# Altium footprint library electronic_dc_load_v1.PcbLib: 32 footprints (part 2 of 2)
Each footprint in its own frame and in the unit in brackets; x right, y up, seen from the top. Pads: shape width x height; smd on the part's side, far side on the other; paste and mask are expansions set on the pad; w line width, h text height; cw(c..) or ccw(c..) is an arc to the next point about the centre after c.
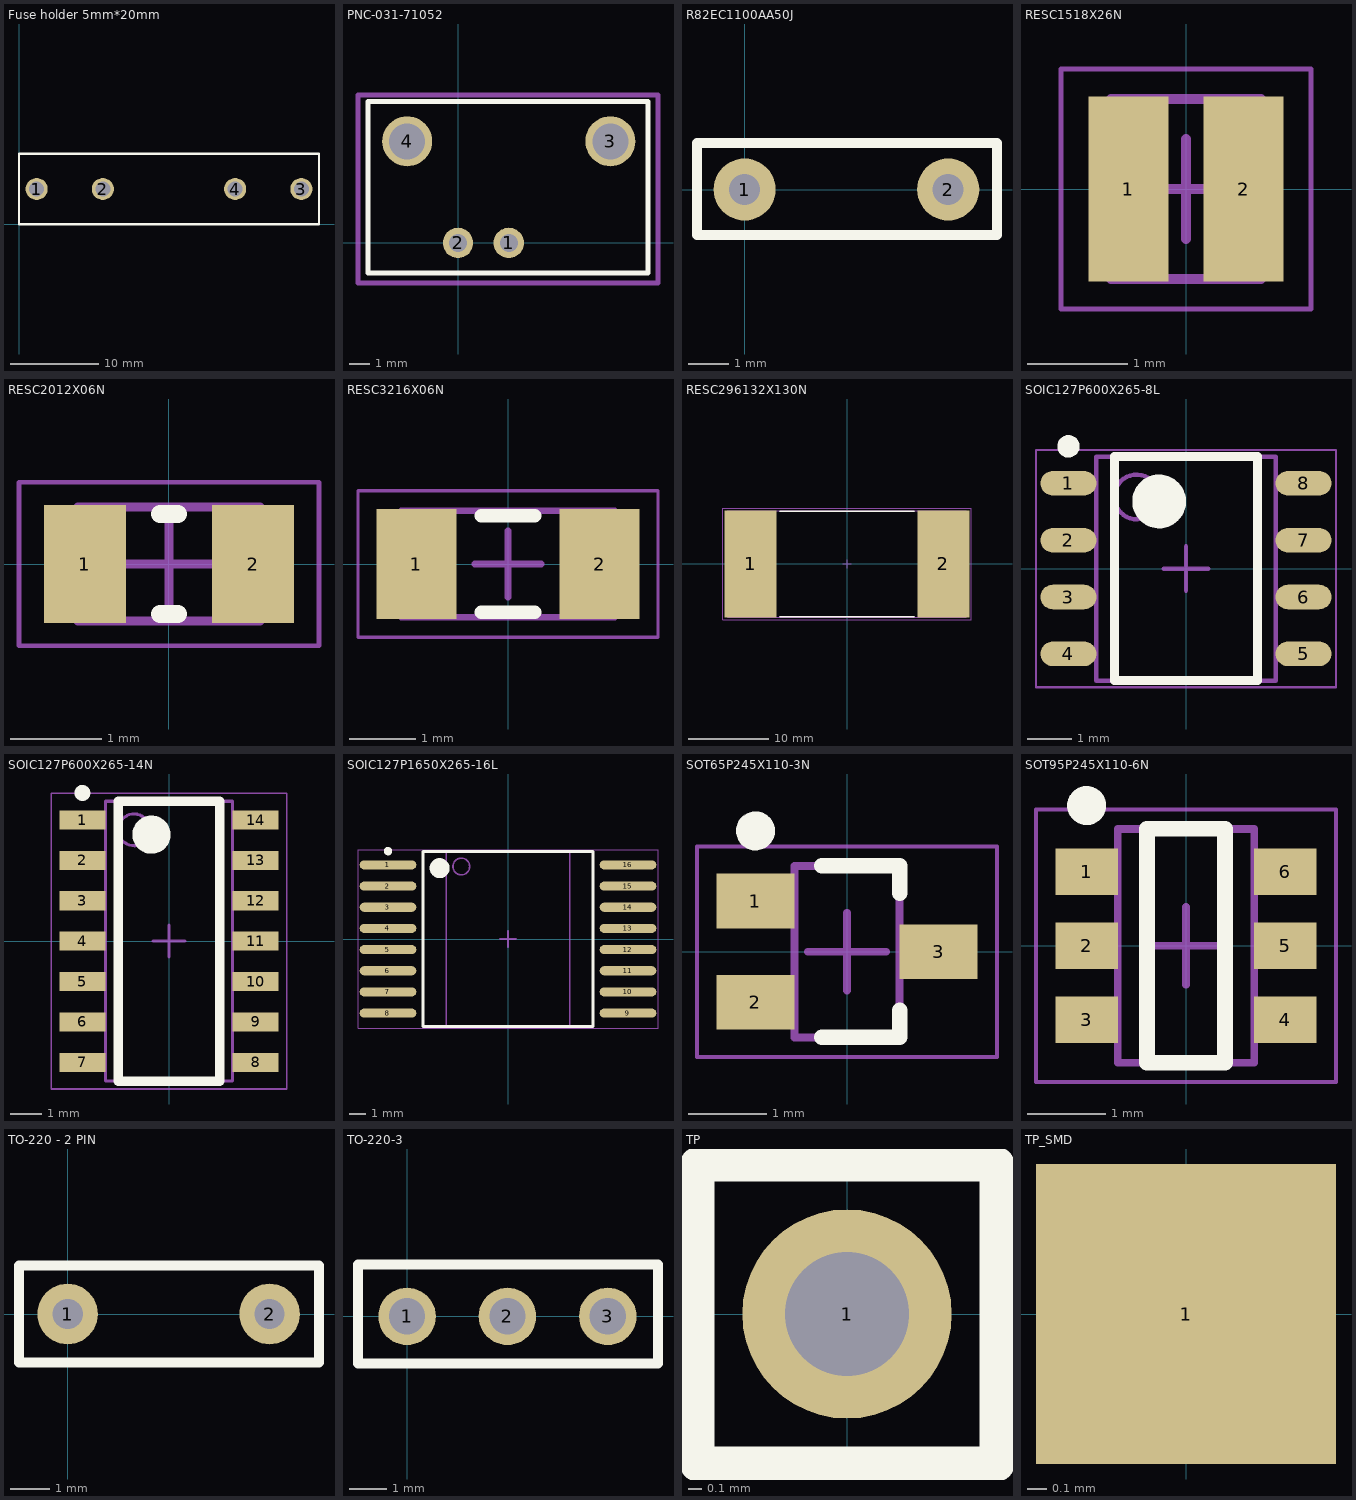
[diagram p1: the footprints below, top view; thin cyan lines are the x and y axes]

## Fuse holder 5mm*20mm [mm]
pads (4):
  round 2.5 hole 1.7: 1(2,4) 2(9.5,4) 3(32,4) 4(24.5,4)
Top Overlay:
  lines w0.254: 0,0 34,0 34,8 0,8 0,0
3D body "User Library-FH-103 fuse holder 6_4mm.STEP": height 10.7, standoff -2.99, extent 24.249,0.494 32.251,7.506
3D body "User Library-FH-103 fuse holder 6_4mm.STEP": height 10.7, standoff -2.99, extent 1.499,0.494 9.501,7.506
3D body "User Library-Fuse-2.STEP": height 12.09, standoff 5.74, extent 0.87,0.975 32.63,7.325

## PNC-031-71052 [mm]
pads (4):
  round 1.524 hole 0.9: 1(2.54,0) 2(0,0)
  round 2.5 hole 1.8: 3(7.62,5.08) 4(-2.54,5.08)
Top Overlay:
  lines w0.254: -4.5,-1.5 9.5,-1.5 9.5,7.061 -4.5,7.061 -4.5,-1.5
Mechanical 15:
  lines w0.254: -5,-2 10,-2 10,7.391 -5,7.391 -5,-2
3D body "11964.stp": height 17.62, standoff -2.37, extent -4.879,-1.9 9.879,33.66

## R82EC1100AA50J [mil]
pads (2):
  round 60 hole 30: 1(0,0) 2(196.85,0)
Top Overlay:
  lines w10: -46,-44 244,-44 244,45 -46,45 -46,-44
3D body "User Library-CapFilmBox_508.STEP": height 326.77, standoff -78.74, extent -51.18,-66.93 244.1,62.99

## RESC1518X26N [mm] "Chip Resistor, 2-Leads, Body 1.50x1.80mm, IPC Medium Density"
height 2.59
pads (2):
  rect 0.8x1.85 smd: 1(-0.575,0) 2(0.575,0)
Mechanical 13:
  lines w0.1: -0.75,-0.9 0.75,-0.9 0.75,0.9 -0.75,0.9 -0.75,-0.9
Mechanical 15:
  lines w0.05: -1.25,-1.2 1.25,-1.2 1.25,1.2 -1.25,1.2 -1.25,-1.2
  lines w0.1: -0.5,0 0.5,0 ; 0,-0.5 0,0.5
3D body: height 2.59, standoff 0, extent 0.2,-0.9 0.75,0.9
3D body: height 2.59, standoff 0, extent -0.75,-0.9 -0.2,0.9
3D body: height 2.59, standoff 0, extent -0.2,-0.9 0.2,0.9

## RESC2012X06N [mm] "Chip Resistor, 2-Leads, Body 2.00x1.25mm, IPC Medium Density"
height 0.6
pads (2):
  rect 0.9x1.3 smd: 1(-0.925,0) 2(0.925,0)
Top Overlay:
  lines w0.2: -0.1,-0.55 0.1,-0.55 ; -0.1,0.55 0.1,0.55
Mechanical 13:
  lines w0.1: -1,-0.625 -1,0.625 1,0.625 1,-0.625 -1,-0.625
Mechanical 15:
  lines w0.05: -1.65,-0.9 -1.65,0.9 1.65,0.9 1.65,-0.9 -1.65,-0.9
  lines w0.1: -0.5,0 0.5,0 ; 0,-0.5 0,0.5
3D body: height 0.6, standoff 0, extent -0.5,-0.625 0.5,0.625
3D body: height 0.6, standoff 0, extent -1,-0.625 -0.5,0.625
3D body: height 0.6, standoff 0, extent 0.5,-0.625 1,0.625

## RESC3216X06N [mm] "Chip Resistor, 2-Leads, Body 3.20x1.60mm, IPC Medium Density"
height 0.55
pads (2):
  rect 1.2x1.65 smd: 1(-1.375,0) 2(1.375,0)
Top Overlay:
  lines w0.2: -0.4,-0.725 0.4,-0.725 ; -0.4,0.725 0.4,0.725
Mechanical 13:
  lines w0.1: -1.6,-0.8 1.6,-0.8 1.6,0.8 -1.6,0.8 -1.6,-0.8
Mechanical 15:
  lines w0.05: -2.25,-1.1 2.25,-1.1 2.25,1.1 -2.25,1.1 -2.25,-1.1
  lines w0.1: -0.5,0 0.5,0 ; 0,-0.5 0,0.5
3D body: height 0.55, standoff 0, extent 0.8,-0.8 1.6,0.8
3D body: height 0.55, standoff 0, extent -1.6,-0.8 -0.8,0.8
3D body: height 0.55, standoff 0, extent -0.8,-0.8 0.8,0.8

## RESC296132X130N [mm] "Chip Resistor, 2-Leads, Body 29.59x13.21mm, IPC Medium Density"
height 13
pads (2):
  rect 6.45x13.3 smd: 1(-11.975,0) 2(11.975,0)
Top Overlay:
  lines w0.2: -8.35,-6.55 8.35,-6.55 ; -8.35,6.55 8.35,6.55
Mechanical 13:
  lines w0.1: -14.795,-6.605 14.795,-6.605 14.795,6.605 -14.795,6.605 -14.795,-6.605
Mechanical 15:
  lines w0.05: -15.45,-6.9 15.45,-6.9 15.45,6.9 -15.45,6.9 -15.45,-6.9
  lines w0.1: -0.5,0 0.5,0 ; 0,-0.5 0,0.5
3D body: height 13, standoff 0, extent 8.795,-6.605 14.795,6.605
3D body: height 13, standoff 0, extent -14.795,-6.605 -8.795,6.605
3D body: height 13, standoff 0, extent -8.795,-6.605 8.795,6.605

## SOIC127P600X265-8L [mm] "SOIC, 8-Leads, Body 4.90x3.90mm, Pitch 1.27mm, IPC High Density"
height 2.65
pads (8):
  oval 1.25x0.55 smd: 1(-2.625,1.905) 2(-2.625,0.635) 3(-2.625,-0.635) 4(-2.625,-1.905) 5(2.625,-1.905) 6(2.625,-0.635) 7(2.625,0.635) 8(2.625,1.905)
Top Overlay:
  circle w0.25: c-2.625,2.73 r0.125
  circle w0.6: c-0.6,1.5 r0.3
  lines w0.2: -1.6,-2.5 -1.6,2.5 1.6,2.5 1.6,-2.5 -1.6,-2.5
Mechanical 13:
  circle w0.1: c-1.1,1.6 r0.5
  lines w0.1: -2,-2.5 -2,2.5 2,2.5 2,-2.5 -2,-2.5
Mechanical 15:
  lines w0.05: -3.35,-2.65 -3.35,2.65 3.35,2.65 3.35,-2.65 -3.35,-2.65
  lines w0.1: -0.5,0 0.5,0 ; 0,-0.5 0,0.5
3D body: height 2.65, standoff 0.38, extent -2,-2.5 2,2.5

## SOIC127P600X265-14N [mm] "SOIC, 14-Leads, Body 8.65x3.91mm, Pitch 1.27mm, IPC Medium Density"
height 2.65
pads (14):
  rect 1.45x0.6 smd: 1(-2.725,3.81) 2(-2.725,2.54) 3(-2.725,1.27) 4(-2.725,0) 5(-2.725,-1.27) 6(-2.725,-2.54) 7(-2.725,-3.81) 8(2.725,-3.81) 9(2.725,-2.54) 10(2.725,-1.27) 11(2.725,0) 12(2.725,1.27) 13(2.725,2.54) 14(2.725,3.81)
Top Overlay:
  circle w0.25: c-2.725,4.66 r0.125
  circle w0.6: c-0.55,3.35 r0.3
  lines w0.3: -1.6,-4.4 -1.6,4.4 1.6,4.4 1.6,-4.4 -1.6,-4.4
Mechanical 13:
  circle w0.1: c-1.1,3.5 r0.5
  lines w0.1: -2,-4.4 -2,4.4 2,4.4 2,-4.4 -2,-4.4
Mechanical 15:
  lines w0.05: -3.7,-4.65 -3.7,4.65 3.7,4.65 3.7,-4.65 -3.7,-4.65
  lines w0.1: -0.5,0 0.5,0 ; 0,-0.5 0,0.5
3D body: height 2.65, standoff 0.38, extent -2,-4.4 2,4.4

## SOIC127P1650X265-16L [mm] "SOIC, 16-Leads, Body 10.30x7.50mm, Pitch 1.27mm, IPC High Density"
height 2.65
pads (16):
  oval 3.4x0.55 smd: 1(-7.2,4.445) 2(-7.2,3.175) 3(-7.2,1.905) 4(-7.2,0.635) 5(-7.2,-0.635) 6(-7.2,-1.905) 7(-7.2,-3.175) 8(-7.2,-4.445) 9(7.2,-4.445) 10(7.2,-3.175) 11(7.2,-1.905) 12(7.2,-0.635) 13(7.2,0.635) 14(7.2,1.905) 15(7.2,3.175) 16(7.2,4.445)
Top Overlay:
  circle w0.6: c-4.1,4.25 r0.3
  circle w0.25: c-7.2,5.27 r0.125
  lines w0.2: -5.1,-5.25 5.1,-5.25 5.1,5.25 -5.1,5.25 -5.1,-5.25
Mechanical 13:
  circle w0.1: c-2.8,4.35 r0.5
  lines w0.1: -3.7,-5.25 3.7,-5.25 3.7,5.25 -3.7,5.25 -3.7,-5.25
Mechanical 15:
  lines w0.05: -9,-5.35 9,-5.35 9,5.35 -9,5.35 -9,-5.35
  lines w0.1: -0.5,0 0.5,0 ; 0,-0.5 0,0.5
3D body: height 2.65, standoff 0.38, extent -3.7,-5.25 3.7,5.25

## SOT65P245X110-3N [mm] "SOT23, 3-Leads, Body 2.00x2.45mm, Pitch 0.65mm, IPC Medium Density"
height 1.1
pads (3):
  rect 1x0.7 smd: 1(-1.175,0.65) 2(-1.175,-0.65) 3(1.175,0)
Top Overlay:
  circle w0.25: c-1.175,1.55 r0.125
  lines w0.2: -0.325,-1.1 0.675,-1.1 0.675,-0.75 ; -0.325,1.1 0.675,1.1 0.675,0.75
Mechanical 13:
  lines w0.1: -0.675,-1.1 0.675,-1.1 0.675,1.1 -0.675,1.1 -0.675,-1.1
Mechanical 15:
  lines w0.05: -1.925,-1.35 1.925,-1.35 1.925,1.35 -1.925,1.35 -1.925,-1.35
  lines w0.1: -0.5,0 0.5,0 ; 0,-0.5 0,0.5
3D body: height 1.1, standoff 0.05, extent -0.675,-1.1 0.675,1.1

## SOT95P245X110-6N [mm] "SOT23, 6-Leads, Body 2.90x2.45mm, Pitch 0.95mm, IPC Medium Density"
height 1.1
pads (6):
  rect 0.8x0.6 smd: 1(-1.275,0.95) 2(-1.275,0) 3(-1.275,-0.95) 4(1.275,-0.95) 5(1.275,0) 6(1.275,0.95)
Top Overlay:
  circle w0.25: c-1.275,1.8 r0.125
  lines w0.2: -0.5,-1.5 0.5,-1.5 0.5,1.5 -0.5,1.5 -0.5,-1.5
Mechanical 13:
  lines w0.1: -0.875,-1.5 -0.875,1.5 0.875,1.5 0.875,-1.5 -0.875,-1.5
Mechanical 15:
  lines w0.05: -1.925,-1.75 -1.925,1.75 1.925,1.75 1.925,-1.75 -1.925,-1.75
  lines w0.1: -0.5,0 0.5,0 ; 0,-0.5 0,0.5
3D body: height 1.1, standoff 0.05, extent -0.875,-1.5 0.875,1.5

## TO-220 - 2 PIN [mil]
pads (2):
  round 60 hole 30: 1(0,0) 2(200,0)
Top Overlay:
  lines w10: -48.23,-48.23 249.02,-48.23 249.02,48.23 -48.23,48.23 -48.23,-48.23
3D body "User Library-TO220-2_V-L.STEP": height 885.83, standoff -275.59, extent -98.43,-68.9 295.28,108.27

## TO-220-3 [mil]
pads (3):
  round 60 hole 37.8: 1(0,0) 2(104.72,0) 3(209.45,0)
Top Overlay:
  lines w10: -51.18,-49.21 261.81,-49.21 261.81,54.13 -51.18,54.13 -51.18,-49.21
3D body "ALSRobot-TO-220-3.STEP": height 858.27, standoff -274.8, extent -89.57,-82.68 300.2,94.49

## TP [mil]
pads (1):
  round 60 hole 35.43: 1(0,0)
Top Overlay:
  lines w10: -43,-43 43,-43 43,43 -43,43 -43,-43

## TP_SMD [mil]
pads (1):
  rect 60x60 smd: 1(0,0)